# Altium footprint library TerminalBlock_RND.PcbLib: 132 footprints (part 6 of 9)
Each footprint in its own frame and in the unit in brackets; x right, y up, seen from the top. Pads: shape width x height; smd on the part's side, far side on the other; paste and mask are expansions set on the pad; w line width, h text height; cw(c..) or ccw(c..) is an arc to the next point about the centre after c.
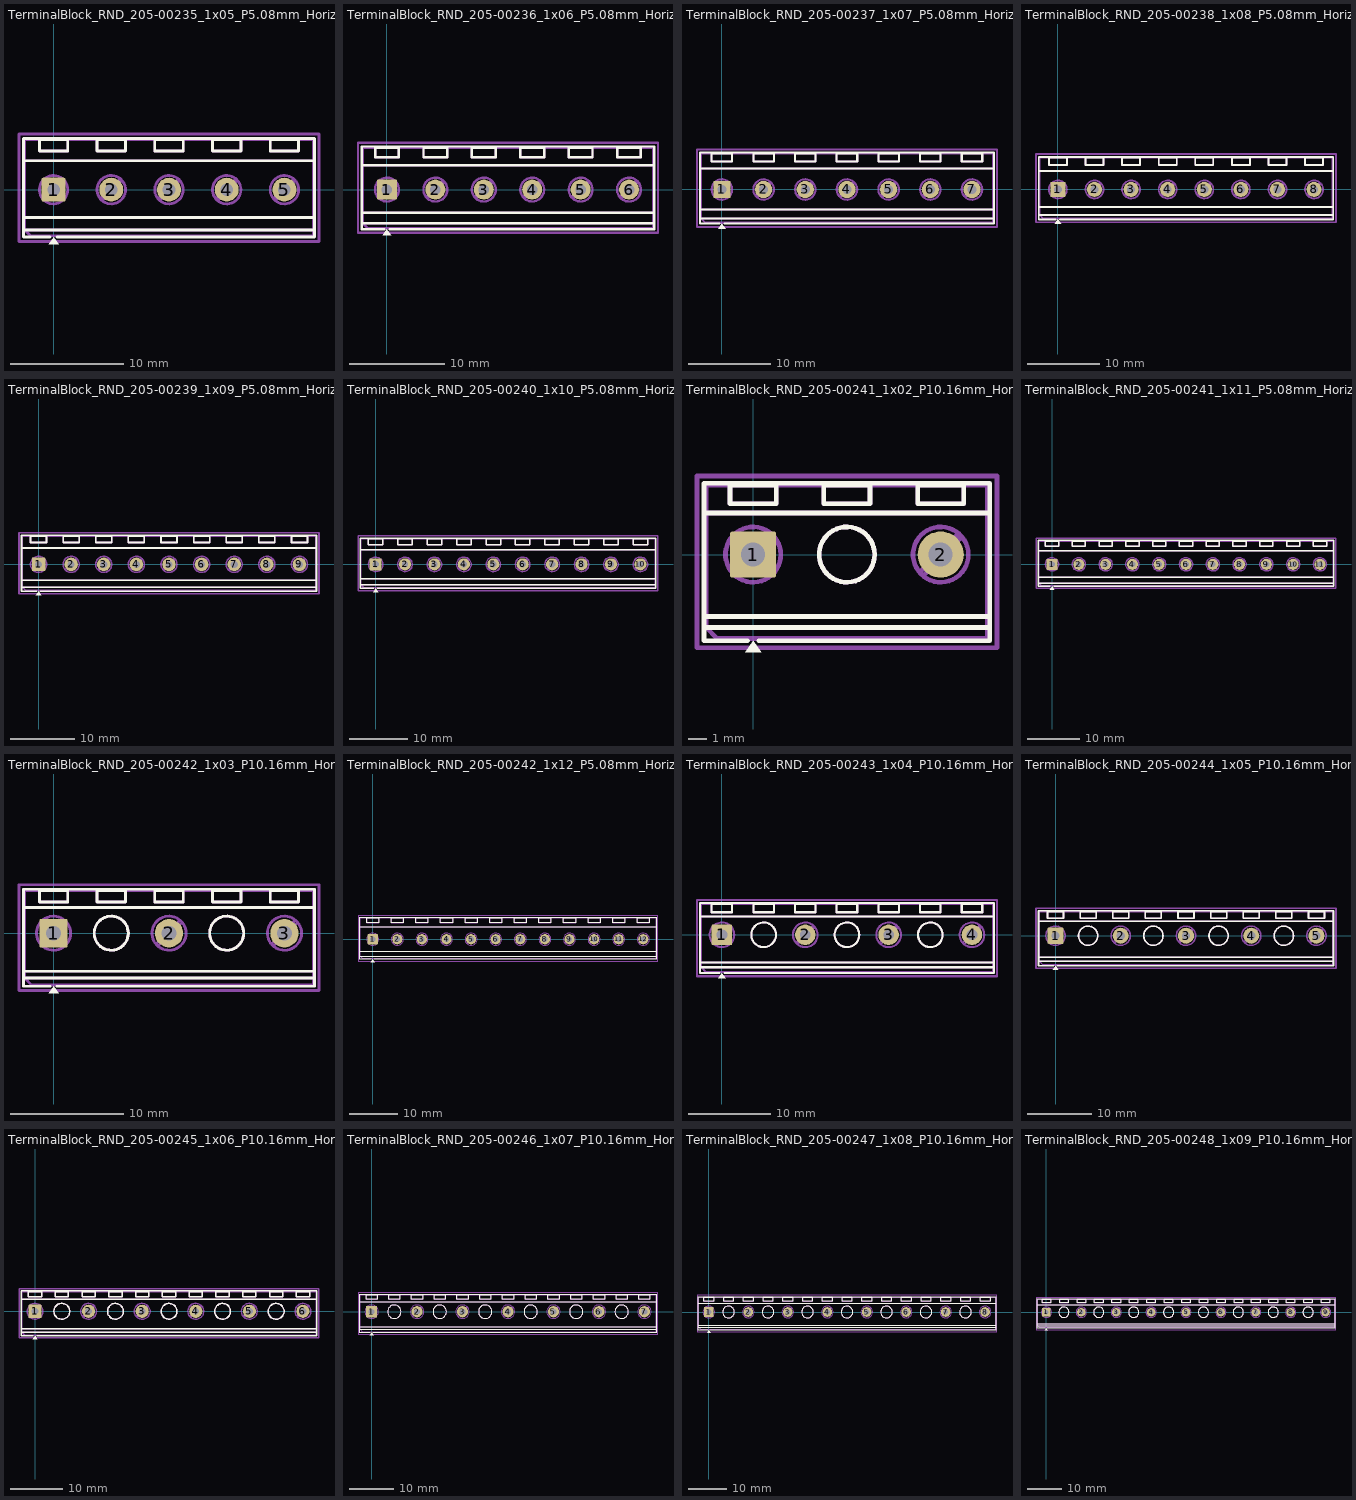
[diagram p5: the footprints below, top view; thin cyan lines are the x and y axes]

## TerminalBlock_RND_205-00235_1x05_P5.08mm_Horizontal [mm]
pads (5):
  rrect12% 2.1x2.1 hole 1.1: 1(0,0)
  round 2.1 hole 1.1: 2(5.08,0) 3(10.16,0) 4(15.24,0) 5(20.32,0)
F.SilkS:
  region: 0.44,-4.78 -0.44,-4.78 0,-4.17
  lines w0.254: -2.66,-3.55 22.98,-3.55 ; -2.66,-2.45 22.98,-2.45 ; -2.66,2.55 22.98,2.55 ; -0.3,-4.17 -2.66,-4.17 -2.66,4.52 22.98,4.52 22.98,-4.17 0.3,-4.17 ; -1.25,3.4 -1.25,4.4 1.25,4.4 1.25,3.4 -1.25,3.4 ; 3.83,3.4 3.83,4.4 6.33,4.4 6.33,3.4 3.83,3.4 ; 8.91,3.4 8.91,4.4 11.41,4.4 11.41,3.4 8.91,3.4 ; 13.99,3.4 13.99,4.4 16.49,4.4 16.49,3.4 13.99,3.4 ; 19.07,3.4 19.07,4.4 21.57,4.4 21.57,3.4 19.07,3.4
F.Fab:
  circle w0.254: c0,0 r1.25
  circle w0.254: c5.08,0 r1.25
  circle w0.254: c10.16,0 r1.25
  circle w0.254: c15.24,0 r1.25
  circle w0.254: c20.32,0 r1.25
  lines w0.254: -2.54,-2.45 22.86,-2.45 ; -2.54,2.55 22.86,2.55 ; -0.948,-0.795 0.795,0.948 ; -0.795,-0.948 0.948,0.795 ; 4.132,-0.795 5.875,0.948 ; 4.285,-0.948 6.028,0.795 ; 9.212,-0.795 10.955,0.948 ; 9.365,-0.948 11.108,0.795 ; 14.292,-0.795 16.035,0.948 ; 14.445,-0.948 16.188,0.795 ; 19.372,-0.795 21.115,0.948 ; 19.525,-0.948 21.268,0.795 ; 22.86,-3.55 -2.54,-3.55 ; -2.54,-3.55 -2.54,4.4 22.86,4.4 22.86,-4.05 -2.04,-4.05 -2.54,-3.55 ; -1.25,3.4 -1.25,4.4 1.25,4.4 1.25,3.4 -1.25,3.4 ; 3.83,3.4 3.83,4.4 6.33,4.4 6.33,3.4 3.83,3.4 ; 8.91,3.4 8.91,4.4 11.41,4.4 11.41,3.4 8.91,3.4 ; 13.99,3.4 13.99,4.4 16.49,4.4 16.49,3.4 13.99,3.4 ; 19.07,3.4 19.07,4.4 21.57,4.4 21.57,3.4 19.07,3.4
  text "'.Designator'" at 6.113,4.68 h1
F.CrtYd:
  lines w0.254: -3.04,-4.55 -3.04,4.9 23.36,4.9 23.36,-4.55 -3.04,-4.55

## TerminalBlock_RND_205-00236_1x06_P5.08mm_Horizontal [mm]
pads (6):
  rrect12% 2.1x2.1 hole 1.1: 1(0,0)
  round 2.1 hole 1.1: 2(5.08,0) 3(10.16,0) 4(15.24,0) 5(20.32,0) 6(25.4,0)
F.SilkS:
  region: 0.44,-4.78 -0.44,-4.78 0,-4.17
  lines w0.254: -2.66,-3.55 28.06,-3.55 ; -2.66,-2.45 28.06,-2.45 ; -2.66,2.55 28.06,2.55 ; -0.3,-4.17 -2.66,-4.17 -2.66,4.52 28.06,4.52 28.06,-4.17 0.3,-4.17 ; -1.25,3.4 -1.25,4.4 1.25,4.4 1.25,3.4 -1.25,3.4 ; 3.83,3.4 3.83,4.4 6.33,4.4 6.33,3.4 3.83,3.4 ; 8.91,3.4 8.91,4.4 11.41,4.4 11.41,3.4 8.91,3.4 ; 13.99,3.4 13.99,4.4 16.49,4.4 16.49,3.4 13.99,3.4 ; 19.07,3.4 19.07,4.4 21.57,4.4 21.57,3.4 19.07,3.4 ; 24.15,3.4 24.15,4.4 26.65,4.4 26.65,3.4 24.15,3.4
F.Fab:
  circle w0.254: c0,0 r1.25
  circle w0.254: c5.08,0 r1.25
  circle w0.254: c10.16,0 r1.25
  circle w0.254: c15.24,0 r1.25
  circle w0.254: c20.32,0 r1.25
  circle w0.254: c25.4,0 r1.25
  lines w0.254: -2.54,-2.45 27.94,-2.45 ; -2.54,2.55 27.94,2.55 ; -0.948,-0.795 0.795,0.948 ; -0.795,-0.948 0.948,0.795 ; 4.132,-0.795 5.875,0.948 ; 4.285,-0.948 6.028,0.795 ; 9.212,-0.795 10.955,0.948 ; 9.365,-0.948 11.108,0.795 ; 14.292,-0.795 16.035,0.948 ; 14.445,-0.948 16.188,0.795 ; 19.372,-0.795 21.115,0.948 ; 19.525,-0.948 21.268,0.795 ; 24.452,-0.795 26.195,0.948 ; 24.605,-0.948 26.348,0.795 ; 27.94,-3.55 -2.54,-3.55 ; -2.54,-3.55 -2.54,4.4 27.94,4.4 27.94,-4.05 -2.04,-4.05 -2.54,-3.55 ; -1.25,3.4 -1.25,4.4 1.25,4.4 1.25,3.4 -1.25,3.4 ; 3.83,3.4 3.83,4.4 6.33,4.4 6.33,3.4 3.83,3.4 ; 8.91,3.4 8.91,4.4 11.41,4.4 11.41,3.4 8.91,3.4 ; 13.99,3.4 13.99,4.4 16.49,4.4 16.49,3.4 13.99,3.4 ; 19.07,3.4 19.07,4.4 21.57,4.4 21.57,3.4 19.07,3.4 ; 24.15,3.4 24.15,4.4 26.65,4.4 26.65,3.4 24.15,3.4
  text "'.Designator'" at 8.653,4.68 h1
F.CrtYd:
  lines w0.254: -3.04,-4.55 -3.04,4.9 28.44,4.9 28.44,-4.55 -3.04,-4.55

## TerminalBlock_RND_205-00237_1x07_P5.08mm_Horizontal [mm]
pads (7):
  rrect12% 2.1x2.1 hole 1.1: 1(0,0)
  round 2.1 hole 1.1: 2(5.08,0) 3(10.16,0) 4(15.24,0) 5(20.32,0) 6(25.4,0) 7(30.48,0)
F.SilkS:
  region: 0.44,-4.78 -0.44,-4.78 0,-4.17
  lines w0.254: -2.66,-3.55 33.14,-3.55 ; -2.66,-2.45 33.14,-2.45 ; -2.66,2.55 33.14,2.55 ; -0.3,-4.17 -2.66,-4.17 -2.66,4.52 33.14,4.52 33.14,-4.17 0.3,-4.17 ; -1.25,3.4 -1.25,4.4 1.25,4.4 1.25,3.4 -1.25,3.4 ; 3.83,3.4 3.83,4.4 6.33,4.4 6.33,3.4 3.83,3.4 ; 8.91,3.4 8.91,4.4 11.41,4.4 11.41,3.4 8.91,3.4 ; 13.99,3.4 13.99,4.4 16.49,4.4 16.49,3.4 13.99,3.4 ; 19.07,3.4 19.07,4.4 21.57,4.4 21.57,3.4 19.07,3.4 ; 24.15,3.4 24.15,4.4 26.65,4.4 26.65,3.4 24.15,3.4 ; 29.23,3.4 29.23,4.4 31.73,4.4 31.73,3.4 29.23,3.4
F.Fab:
  circle w0.254: c0,0 r1.25
  circle w0.254: c5.08,0 r1.25
  circle w0.254: c10.16,0 r1.25
  circle w0.254: c15.24,0 r1.25
  circle w0.254: c20.32,0 r1.25
  circle w0.254: c25.4,0 r1.25
  circle w0.254: c30.48,0 r1.25
  lines w0.254: -2.54,-2.45 33.02,-2.45 ; -2.54,2.55 33.02,2.55 ; -0.948,-0.795 0.795,0.948 ; -0.795,-0.948 0.948,0.795 ; 4.132,-0.795 5.875,0.948 ; 4.285,-0.948 6.028,0.795 ; 9.212,-0.795 10.955,0.948 ; 9.365,-0.948 11.108,0.795 ; 14.292,-0.795 16.035,0.948 ; 14.445,-0.948 16.188,0.795 ; 19.372,-0.795 21.115,0.948 ; 19.525,-0.948 21.268,0.795 ; 24.452,-0.795 26.195,0.948 ; 24.605,-0.948 26.348,0.795 ; 29.532,-0.795 31.275,0.948 ; 29.685,-0.948 31.428,0.795 ; 33.02,-3.55 -2.54,-3.55 ; -2.54,-3.55 -2.54,4.4 33.02,4.4 33.02,-4.05 -2.04,-4.05 -2.54,-3.55 ; -1.25,3.4 -1.25,4.4 1.25,4.4 1.25,3.4 -1.25,3.4 ; 3.83,3.4 3.83,4.4 6.33,4.4 6.33,3.4 3.83,3.4 ; 8.91,3.4 8.91,4.4 11.41,4.4 11.41,3.4 8.91,3.4 ; 13.99,3.4 13.99,4.4 16.49,4.4 16.49,3.4 13.99,3.4 ; 19.07,3.4 19.07,4.4 21.57,4.4 21.57,3.4 19.07,3.4 ; 24.15,3.4 24.15,4.4 26.65,4.4 26.65,3.4 24.15,3.4 ; 29.23,3.4 29.23,4.4 31.73,4.4 31.73,3.4 29.23,3.4
  text "'.Designator'" at 11.193,4.68 h1
F.CrtYd:
  lines w0.254: -3.04,-4.55 -3.04,4.9 33.53,4.9 33.53,-4.55 -3.04,-4.55

## TerminalBlock_RND_205-00238_1x08_P5.08mm_Horizontal [mm]
pads (8):
  rrect12% 2.1x2.1 hole 1.1: 1(0,0)
  round 2.1 hole 1.1: 2(5.08,0) 3(10.16,0) 4(15.24,0) 5(20.32,0) 6(25.4,0) 7(30.48,0) 8(35.56,0)
F.SilkS:
  region: 0.44,-4.78 -0.44,-4.78 0,-4.17
  lines w0.254: -2.66,-3.55 38.22,-3.55 ; -2.66,-2.45 38.22,-2.45 ; -2.66,2.55 38.22,2.55 ; -0.3,-4.17 -2.66,-4.17 -2.66,4.52 38.22,4.52 38.22,-4.17 0.3,-4.17 ; -1.25,3.4 -1.25,4.4 1.25,4.4 1.25,3.4 -1.25,3.4 ; 3.83,3.4 3.83,4.4 6.33,4.4 6.33,3.4 3.83,3.4 ; 8.91,3.4 8.91,4.4 11.41,4.4 11.41,3.4 8.91,3.4 ; 13.99,3.4 13.99,4.4 16.49,4.4 16.49,3.4 13.99,3.4 ; 19.07,3.4 19.07,4.4 21.57,4.4 21.57,3.4 19.07,3.4 ; 24.15,3.4 24.15,4.4 26.65,4.4 26.65,3.4 24.15,3.4 ; 29.23,3.4 29.23,4.4 31.73,4.4 31.73,3.4 29.23,3.4 ; 34.31,3.4 34.31,4.4 36.81,4.4 36.81,3.4 34.31,3.4
F.Fab:
  circle w0.254: c0,0 r1.25
  circle w0.254: c5.08,0 r1.25
  circle w0.254: c10.16,0 r1.25
  circle w0.254: c15.24,0 r1.25
  circle w0.254: c20.32,0 r1.25
  circle w0.254: c25.4,0 r1.25
  circle w0.254: c30.48,0 r1.25
  circle w0.254: c35.56,0 r1.25
  lines w0.254: -2.54,-2.45 38.1,-2.45 ; -2.54,2.55 38.1,2.55 ; -0.948,-0.795 0.795,0.948 ; -0.795,-0.948 0.948,0.795 ; 4.132,-0.795 5.875,0.948 ; 4.285,-0.948 6.028,0.795 ; 9.212,-0.795 10.955,0.948 ; 9.365,-0.948 11.108,0.795 ; 14.292,-0.795 16.035,0.948 ; 14.445,-0.948 16.188,0.795 ; 19.372,-0.795 21.115,0.948 ; 19.525,-0.948 21.268,0.795 ; 24.452,-0.795 26.195,0.948 ; 24.605,-0.948 26.348,0.795 ; 29.532,-0.795 31.275,0.948 ; 29.685,-0.948 31.428,0.795 ; 34.612,-0.795 36.355,0.948 ; 34.765,-0.948 36.508,0.795 ; 38.1,-3.55 -2.54,-3.55 ; -2.54,-3.55 -2.54,4.4 38.1,4.4 38.1,-4.05 -2.04,-4.05 -2.54,-3.55 ; -1.25,3.4 -1.25,4.4 1.25,4.4 1.25,3.4 -1.25,3.4 ; 3.83,3.4 3.83,4.4 6.33,4.4 6.33,3.4 3.83,3.4 ; 8.91,3.4 8.91,4.4 11.41,4.4 11.41,3.4 8.91,3.4 ; 13.99,3.4 13.99,4.4 16.49,4.4 16.49,3.4 13.99,3.4 ; 19.07,3.4 19.07,4.4 21.57,4.4 21.57,3.4 19.07,3.4 ; 24.15,3.4 24.15,4.4 26.65,4.4 26.65,3.4 24.15,3.4 ; 29.23,3.4 29.23,4.4 31.73,4.4 31.73,3.4 29.23,3.4 ; 34.31,3.4 34.31,4.4 36.81,4.4 36.81,3.4 34.31,3.4
  text "'.Designator'" at 13.733,4.68 h1
F.CrtYd:
  lines w0.254: -3.04,-4.55 -3.04,4.9 38.6,4.9 38.6,-4.55 -3.04,-4.55

## TerminalBlock_RND_205-00239_1x09_P5.08mm_Horizontal [mm]
pads (9):
  rrect12% 2.1x2.1 hole 1.1: 1(0,0)
  round 2.1 hole 1.1: 2(5.08,0) 3(10.16,0) 4(15.24,0) 5(20.32,0) 6(25.4,0) 7(30.48,0) 8(35.56,0) 9(40.64,0)
F.SilkS:
  region: 0.44,-4.78 -0.44,-4.78 0,-4.17
  lines w0.254: -2.66,-3.55 43.3,-3.55 ; -2.66,-2.45 43.3,-2.45 ; -2.66,2.55 43.3,2.55 ; -0.3,-4.17 -2.66,-4.17 -2.66,4.52 43.3,4.52 43.3,-4.17 0.3,-4.17 ; -1.25,3.4 -1.25,4.4 1.25,4.4 1.25,3.4 -1.25,3.4 ; 3.83,3.4 3.83,4.4 6.33,4.4 6.33,3.4 3.83,3.4 ; 8.91,3.4 8.91,4.4 11.41,4.4 11.41,3.4 8.91,3.4 ; 13.99,3.4 13.99,4.4 16.49,4.4 16.49,3.4 13.99,3.4 ; 19.07,3.4 19.07,4.4 21.57,4.4 21.57,3.4 19.07,3.4 ; 24.15,3.4 24.15,4.4 26.65,4.4 26.65,3.4 24.15,3.4 ; 29.23,3.4 29.23,4.4 31.73,4.4 31.73,3.4 29.23,3.4 ; 34.31,3.4 34.31,4.4 36.81,4.4 36.81,3.4 34.31,3.4 ; 39.39,3.4 39.39,4.4 41.89,4.4 41.89,3.4 39.39,3.4
F.Fab:
  circle w0.254: c0,0 r1.25
  circle w0.254: c5.08,0 r1.25
  circle w0.254: c10.16,0 r1.25
  circle w0.254: c15.24,0 r1.25
  circle w0.254: c20.32,0 r1.25
  circle w0.254: c25.4,0 r1.25
  circle w0.254: c30.48,0 r1.25
  circle w0.254: c35.56,0 r1.25
  circle w0.254: c40.64,0 r1.25
  lines w0.254: -2.54,-2.45 43.18,-2.45 ; -2.54,2.55 43.18,2.55 ; -0.948,-0.795 0.795,0.948 ; -0.795,-0.948 0.948,0.795 ; 4.132,-0.795 5.875,0.948 ; 4.285,-0.948 6.028,0.795 ; 9.212,-0.795 10.955,0.948 ; 9.365,-0.948 11.108,0.795 ; 14.292,-0.795 16.035,0.948 ; 14.445,-0.948 16.188,0.795 ; 19.372,-0.795 21.115,0.948 ; 19.525,-0.948 21.268,0.795 ; 24.452,-0.795 26.195,0.948 ; 24.605,-0.948 26.348,0.795 ; 29.532,-0.795 31.275,0.948 ; 29.685,-0.948 31.428,0.795 ; 34.612,-0.795 36.355,0.948 ; 34.765,-0.948 36.508,0.795 ; 39.692,-0.795 41.435,0.948 ; 39.845,-0.948 41.588,0.795 ; 43.18,-3.55 -2.54,-3.55 ; -2.54,-3.55 -2.54,4.4 43.18,4.4 43.18,-4.05 -2.04,-4.05 -2.54,-3.55 ; -1.25,3.4 -1.25,4.4 1.25,4.4 1.25,3.4 -1.25,3.4 ; 3.83,3.4 3.83,4.4 6.33,4.4 6.33,3.4 3.83,3.4 ; 8.91,3.4 8.91,4.4 11.41,4.4 11.41,3.4 8.91,3.4 ; 13.99,3.4 13.99,4.4 16.49,4.4 16.49,3.4 13.99,3.4 ; 19.07,3.4 19.07,4.4 21.57,4.4 21.57,3.4 19.07,3.4 ; 24.15,3.4 24.15,4.4 26.65,4.4 26.65,3.4 24.15,3.4 ; 29.23,3.4 29.23,4.4 31.73,4.4 31.73,3.4 29.23,3.4 ; 34.31,3.4 34.31,4.4 36.81,4.4 36.81,3.4 34.31,3.4 ; 39.39,3.4 39.39,4.4 41.89,4.4 41.89,3.4 39.39,3.4
  text "'.Designator'" at 16.273,4.68 h1
F.CrtYd:
  lines w0.254: -3.04,-4.55 -3.04,4.9 43.68,4.9 43.68,-4.55 -3.04,-4.55

## TerminalBlock_RND_205-00240_1x10_P5.08mm_Horizontal [mm]
pads (10):
  rrect12% 2.1x2.1 hole 1.1: 1(0,0)
  round 2.1 hole 1.1: 2(5.08,0) 3(10.16,0) 4(15.24,0) 5(20.32,0) 6(25.4,0) 7(30.48,0) 8(35.56,0) 9(40.64,0) 10(45.72,0)
F.SilkS:
  region: 0.44,-4.78 -0.44,-4.78 0,-4.17
  lines w0.254: -2.66,-3.55 48.38,-3.55 ; -2.66,-2.45 48.38,-2.45 ; -2.66,2.55 48.38,2.55 ; -0.3,-4.17 -2.66,-4.17 -2.66,4.52 48.38,4.52 48.38,-4.17 0.3,-4.17 ; -1.25,3.4 -1.25,4.4 1.25,4.4 1.25,3.4 -1.25,3.4 ; 3.83,3.4 3.83,4.4 6.33,4.4 6.33,3.4 3.83,3.4 ; 8.91,3.4 8.91,4.4 11.41,4.4 11.41,3.4 8.91,3.4 ; 13.99,3.4 13.99,4.4 16.49,4.4 16.49,3.4 13.99,3.4 ; 19.07,3.4 19.07,4.4 21.57,4.4 21.57,3.4 19.07,3.4 ; 24.15,3.4 24.15,4.4 26.65,4.4 26.65,3.4 24.15,3.4 ; 29.23,3.4 29.23,4.4 31.73,4.4 31.73,3.4 29.23,3.4 ; 34.31,3.4 34.31,4.4 36.81,4.4 36.81,3.4 34.31,3.4 ; 39.39,3.4 39.39,4.4 41.89,4.4 41.89,3.4 39.39,3.4 ; 44.47,3.4 44.47,4.4 46.97,4.4 46.97,3.4 44.47,3.4
F.Fab:
  circle w0.254: c0,0 r1.25
  circle w0.254: c5.08,0 r1.25
  circle w0.254: c10.16,0 r1.25
  circle w0.254: c15.24,0 r1.25
  circle w0.254: c20.32,0 r1.25
  circle w0.254: c25.4,0 r1.25
  circle w0.254: c30.48,0 r1.25
  circle w0.254: c35.56,0 r1.25
  circle w0.254: c40.64,0 r1.25
  circle w0.254: c45.72,0 r1.25
  lines w0.254: -2.54,-2.45 48.26,-2.45 ; -2.54,2.55 48.26,2.55 ; -0.948,-0.795 0.795,0.948 ; -0.795,-0.948 0.948,0.795 ; 4.132,-0.795 5.875,0.948 ; 4.285,-0.948 6.028,0.795 ; 9.212,-0.795 10.955,0.948 ; 9.365,-0.948 11.108,0.795 ; 14.292,-0.795 16.035,0.948 ; 14.445,-0.948 16.188,0.795 ; 19.372,-0.795 21.115,0.948 ; 19.525,-0.948 21.268,0.795 ; 24.452,-0.795 26.195,0.948 ; 24.605,-0.948 26.348,0.795 ; 29.532,-0.795 31.275,0.948 ; 29.685,-0.948 31.428,0.795 ; 34.612,-0.795 36.355,0.948 ; 34.765,-0.948 36.508,0.795 ; 39.692,-0.795 41.435,0.948 ; 39.845,-0.948 41.588,0.795 ; 44.772,-0.795 46.515,0.948 ; 44.925,-0.948 46.668,0.795 ; 48.26,-3.55 -2.54,-3.55 ; -2.54,-3.55 -2.54,4.4 48.26,4.4 48.26,-4.05 -2.04,-4.05 -2.54,-3.55 ; -1.25,3.4 -1.25,4.4 1.25,4.4 1.25,3.4 -1.25,3.4 ; 3.83,3.4 3.83,4.4 6.33,4.4 6.33,3.4 3.83,3.4 ; 8.91,3.4 8.91,4.4 11.41,4.4 11.41,3.4 8.91,3.4 ; 13.99,3.4 13.99,4.4 16.49,4.4 16.49,3.4 13.99,3.4 ; 19.07,3.4 19.07,4.4 21.57,4.4 21.57,3.4 19.07,3.4 ; 24.15,3.4 24.15,4.4 26.65,4.4 26.65,3.4 24.15,3.4 ; 29.23,3.4 29.23,4.4 31.73,4.4 31.73,3.4 29.23,3.4 ; 34.31,3.4 34.31,4.4 36.81,4.4 36.81,3.4 34.31,3.4 ; 39.39,3.4 39.39,4.4 41.89,4.4 41.89,3.4 39.39,3.4 ; 44.47,3.4 44.47,4.4 46.97,4.4 46.97,3.4 44.47,3.4
  text "'.Designator'" at 18.813,4.68 h1
F.CrtYd:
  lines w0.254: -3.04,-4.55 -3.04,4.9 48.76,4.9 48.76,-4.55 -3.04,-4.55

## TerminalBlock_RND_205-00241_1x02_P10.16mm_Horizontal [mm]
pads (2):
  rrect10% 2.5x2.5 hole 1.3: 1(0,0)
  round 2.5 hole 1.3: 2(10.16,0)
F.SilkS:
  circle w0.254: c5.08,0 r1.5
  region: 0.44,-5.28 -0.44,-5.28 0,-4.67
  lines w0.254: -2.66,-3.95 12.82,-3.95 ; -2.66,-3.35 12.82,-3.35 ; -2.66,2.25 12.82,2.25 ; -0.3,-4.67 -2.66,-4.67 -2.66,3.87 12.82,3.87 12.82,-4.67 0.3,-4.67 ; -1.25,2.75 -1.25,3.75 1.25,3.75 1.25,2.75 -1.25,2.75 ; 3.83,2.75 3.83,3.75 6.33,3.75 6.33,2.75 3.83,2.75 ; 8.91,2.75 8.91,3.75 11.41,3.75 11.41,2.75 8.91,2.75
F.Fab:
  circle w0.254: c0,0 r1.5
  circle w0.254: c5.08,0 r1.5
  circle w0.254: c10.16,0 r1.5
  lines w0.254: -2.54,-3.35 12.7,-3.35 ; -2.54,2.25 12.7,2.25 ; -1.138,-0.955 0.955,1.138 ; -0.955,-1.138 1.138,0.955 ; 9.022,-0.955 11.115,1.138 ; 9.205,-1.138 11.298,0.955 ; 12.7,-3.95 -2.54,-3.95 ; -2.54,-3.95 -2.54,3.75 12.7,3.75 12.7,-4.55 -1.94,-4.55 -2.54,-3.95 ; -1.25,2.75 -1.25,3.75 1.25,3.75 1.25,2.75 -1.25,2.75 ; 3.83,2.75 3.83,3.75 6.33,3.75 6.33,2.75 3.83,2.75 ; 8.91,2.75 8.91,3.75 11.41,3.75 11.41,2.75 8.91,2.75
  text "'.Designator'" at 1.033,4.03 h1
F.CrtYd:
  lines w0.254: -3.04,-5.05 -3.04,4.26 13.21,4.26 13.21,-5.05 -3.04,-5.05

## TerminalBlock_RND_205-00241_1x11_P5.08mm_Horizontal [mm]
pads (11):
  rrect12% 2.1x2.1 hole 1.1: 1(0,0)
  round 2.1 hole 1.1: 2(5.08,0) 3(10.16,0) 4(15.24,0) 5(20.32,0) 6(25.4,0) 7(30.48,0) 8(35.56,0) 9(40.64,0) 10(45.72,0) 11(50.8,0)
F.SilkS:
  region: 0.44,-4.78 -0.44,-4.78 0,-4.17
  lines w0.254: -2.66,-3.55 53.46,-3.55 ; -2.66,-2.45 53.46,-2.45 ; -2.66,2.55 53.46,2.55 ; -0.3,-4.17 -2.66,-4.17 -2.66,4.52 53.46,4.52 53.46,-4.17 0.3,-4.17 ; -1.25,3.4 -1.25,4.4 1.25,4.4 1.25,3.4 -1.25,3.4 ; 3.83,3.4 3.83,4.4 6.33,4.4 6.33,3.4 3.83,3.4 ; 8.91,3.4 8.91,4.4 11.41,4.4 11.41,3.4 8.91,3.4 ; 13.99,3.4 13.99,4.4 16.49,4.4 16.49,3.4 13.99,3.4 ; 19.07,3.4 19.07,4.4 21.57,4.4 21.57,3.4 19.07,3.4 ; 24.15,3.4 24.15,4.4 26.65,4.4 26.65,3.4 24.15,3.4 ; 29.23,3.4 29.23,4.4 31.73,4.4 31.73,3.4 29.23,3.4 ; 34.31,3.4 34.31,4.4 36.81,4.4 36.81,3.4 34.31,3.4 ; 39.39,3.4 39.39,4.4 41.89,4.4 41.89,3.4 39.39,3.4 ; 44.47,3.4 44.47,4.4 46.97,4.4 46.97,3.4 44.47,3.4 ; 49.55,3.4 49.55,4.4 52.05,4.4 52.05,3.4 49.55,3.4
F.Fab:
  circle w0.254: c0,0 r1.25
  circle w0.254: c5.08,0 r1.25
  circle w0.254: c10.16,0 r1.25
  circle w0.254: c15.24,0 r1.25
  circle w0.254: c20.32,0 r1.25
  circle w0.254: c25.4,0 r1.25
  circle w0.254: c30.48,0 r1.25
  circle w0.254: c35.56,0 r1.25
  circle w0.254: c40.64,0 r1.25
  circle w0.254: c45.72,0 r1.25
  circle w0.254: c50.8,0 r1.25
  lines w0.254: -2.54,-2.45 53.34,-2.45 ; -2.54,2.55 53.34,2.55 ; -0.948,-0.795 0.795,0.948 ; -0.795,-0.948 0.948,0.795 ; 4.132,-0.795 5.875,0.948 ; 4.285,-0.948 6.028,0.795 ; 9.212,-0.795 10.955,0.948 ; 9.365,-0.948 11.108,0.795 ; 14.292,-0.795 16.035,0.948 ; 14.445,-0.948 16.188,0.795 ; 19.372,-0.795 21.115,0.948 ; 19.525,-0.948 21.268,0.795 ; 24.452,-0.795 26.195,0.948 ; 24.605,-0.948 26.348,0.795 ; 29.532,-0.795 31.275,0.948 ; 29.685,-0.948 31.428,0.795 ; 34.612,-0.795 36.355,0.948 ; 34.765,-0.948 36.508,0.795 ; 39.692,-0.795 41.435,0.948 ; 39.845,-0.948 41.588,0.795 ; 44.772,-0.795 46.515,0.948 ; 44.925,-0.948 46.668,0.795 ; 49.852,-0.795 51.595,0.948 ; 50.005,-0.948 51.748,0.795 ; 53.34,-3.55 -2.54,-3.55 ; -2.54,-3.55 -2.54,4.4 53.34,4.4 53.34,-4.05 -2.04,-4.05 -2.54,-3.55 ; -1.25,3.4 -1.25,4.4 1.25,4.4 1.25,3.4 -1.25,3.4 ; 3.83,3.4 3.83,4.4 6.33,4.4 6.33,3.4 3.83,3.4 ; 8.91,3.4 8.91,4.4 11.41,4.4 11.41,3.4 8.91,3.4 ; 13.99,3.4 13.99,4.4 16.49,4.4 16.49,3.4 13.99,3.4 ; 19.07,3.4 19.07,4.4 21.57,4.4 21.57,3.4 19.07,3.4 ; 24.15,3.4 24.15,4.4 26.65,4.4 26.65,3.4 24.15,3.4 ; 29.23,3.4 29.23,4.4 31.73,4.4 31.73,3.4 29.23,3.4 ; 34.31,3.4 34.31,4.4 36.81,4.4 36.81,3.4 34.31,3.4 ; 39.39,3.4 39.39,4.4 41.89,4.4 41.89,3.4 39.39,3.4 ; 44.47,3.4 44.47,4.4 46.97,4.4 46.97,3.4 44.47,3.4 ; 49.55,3.4 49.55,4.4 52.05,4.4 52.05,3.4 49.55,3.4
  text "'.Designator'" at 21.353,4.68 h1
F.CrtYd:
  lines w0.254: -3.04,-4.55 -3.04,4.9 53.84,4.9 53.84,-4.55 -3.04,-4.55

## TerminalBlock_RND_205-00242_1x03_P10.16mm_Horizontal [mm]
pads (3):
  rrect10% 2.5x2.5 hole 1.3: 1(0,0)
  round 2.5 hole 1.3: 2(10.16,0) 3(20.32,0)
F.SilkS:
  circle w0.254: c5.08,0 r1.5
  circle w0.254: c15.24,0 r1.5
  region: 0.44,-5.28 -0.44,-5.28 0,-4.67
  lines w0.254: -2.66,-3.95 22.98,-3.95 ; -2.66,-3.35 22.98,-3.35 ; -2.66,2.25 22.98,2.25 ; -0.3,-4.67 -2.66,-4.67 -2.66,3.87 22.98,3.87 22.98,-4.67 0.3,-4.67 ; -1.25,2.75 -1.25,3.75 1.25,3.75 1.25,2.75 -1.25,2.75 ; 3.83,2.75 3.83,3.75 6.33,3.75 6.33,2.75 3.83,2.75 ; 8.91,2.75 8.91,3.75 11.41,3.75 11.41,2.75 8.91,2.75 ; 13.99,2.75 13.99,3.75 16.49,3.75 16.49,2.75 13.99,2.75 ; 19.07,2.75 19.07,3.75 21.57,3.75 21.57,2.75 19.07,2.75
F.Fab:
  circle w0.254: c0,0 r1.5
  circle w0.254: c5.08,0 r1.5
  circle w0.254: c10.16,0 r1.5
  circle w0.254: c15.24,0 r1.5
  circle w0.254: c20.32,0 r1.5
  lines w0.254: -2.54,-3.35 22.86,-3.35 ; -2.54,2.25 22.86,2.25 ; -1.138,-0.955 0.955,1.138 ; -0.955,-1.138 1.138,0.955 ; 9.022,-0.955 11.115,1.138 ; 9.205,-1.138 11.298,0.955 ; 19.182,-0.955 21.275,1.138 ; 19.365,-1.138 21.458,0.955 ; 22.86,-3.95 -2.54,-3.95 ; -2.54,-3.95 -2.54,3.75 22.86,3.75 22.86,-4.55 -1.94,-4.55 -2.54,-3.95 ; -1.25,2.75 -1.25,3.75 1.25,3.75 1.25,2.75 -1.25,2.75 ; 3.83,2.75 3.83,3.75 6.33,3.75 6.33,2.75 3.83,2.75 ; 8.91,2.75 8.91,3.75 11.41,3.75 11.41,2.75 8.91,2.75 ; 13.99,2.75 13.99,3.75 16.49,3.75 16.49,2.75 13.99,2.75 ; 19.07,2.75 19.07,3.75 21.57,3.75 21.57,2.75 19.07,2.75
  text "'.Designator'" at 6.113,4.03 h1
F.CrtYd:
  lines w0.254: -3.04,-5.05 -3.04,4.26 23.36,4.26 23.36,-5.05 -3.04,-5.05

## TerminalBlock_RND_205-00242_1x12_P5.08mm_Horizontal [mm]
pads (12):
  rrect12% 2.1x2.1 hole 1.1: 1(0,0)
  round 2.1 hole 1.1: 2(5.08,0) 3(10.16,0) 4(15.24,0) 5(20.32,0) 6(25.4,0) 7(30.48,0) 8(35.56,0) 9(40.64,0) 10(45.72,0) 11(50.8,0) 12(55.88,0)
F.SilkS:
  region: 0.44,-4.78 -0.44,-4.78 0,-4.17
  lines w0.254: -2.66,-3.55 58.54,-3.55 ; -2.66,-2.45 58.54,-2.45 ; -2.66,2.55 58.54,2.55 ; -0.3,-4.17 -2.66,-4.17 -2.66,4.52 58.54,4.52 58.54,-4.17 0.3,-4.17 ; -1.25,3.4 -1.25,4.4 1.25,4.4 1.25,3.4 -1.25,3.4 ; 3.83,3.4 3.83,4.4 6.33,4.4 6.33,3.4 3.83,3.4 ; 8.91,3.4 8.91,4.4 11.41,4.4 11.41,3.4 8.91,3.4 ; 13.99,3.4 13.99,4.4 16.49,4.4 16.49,3.4 13.99,3.4 ; 19.07,3.4 19.07,4.4 21.57,4.4 21.57,3.4 19.07,3.4 ; 24.15,3.4 24.15,4.4 26.65,4.4 26.65,3.4 24.15,3.4 ; 29.23,3.4 29.23,4.4 31.73,4.4 31.73,3.4 29.23,3.4 ; 34.31,3.4 34.31,4.4 36.81,4.4 36.81,3.4 34.31,3.4 ; 39.39,3.4 39.39,4.4 41.89,4.4 41.89,3.4 39.39,3.4 ; 44.47,3.4 44.47,4.4 46.97,4.4 46.97,3.4 44.47,3.4 ; 49.55,3.4 49.55,4.4 52.05,4.4 52.05,3.4 49.55,3.4 ; 54.63,3.4 54.63,4.4 57.13,4.4 57.13,3.4 54.63,3.4
F.Fab:
  circle w0.254: c0,0 r1.25
  circle w0.254: c5.08,0 r1.25
  circle w0.254: c10.16,0 r1.25
  circle w0.254: c15.24,0 r1.25
  circle w0.254: c20.32,0 r1.25
  circle w0.254: c25.4,0 r1.25
  circle w0.254: c30.48,0 r1.25
  circle w0.254: c35.56,0 r1.25
  circle w0.254: c40.64,0 r1.25
  circle w0.254: c45.72,0 r1.25
  circle w0.254: c50.8,0 r1.25
  circle w0.254: c55.88,0 r1.25
  lines w0.254: -2.54,-2.45 58.42,-2.45 ; -2.54,2.55 58.42,2.55 ; -0.948,-0.795 0.795,0.948 ; -0.795,-0.948 0.948,0.795 ; 4.132,-0.795 5.875,0.948 ; 4.285,-0.948 6.028,0.795 ; 9.212,-0.795 10.955,0.948 ; 9.365,-0.948 11.108,0.795 ; 14.292,-0.795 16.035,0.948 ; 14.445,-0.948 16.188,0.795 ; 19.372,-0.795 21.115,0.948 ; 19.525,-0.948 21.268,0.795 ; 24.452,-0.795 26.195,0.948 ; 24.605,-0.948 26.348,0.795 ; 29.532,-0.795 31.275,0.948 ; 29.685,-0.948 31.428,0.795 ; 34.612,-0.795 36.355,0.948 ; 34.765,-0.948 36.508,0.795 ; 39.692,-0.795 41.435,0.948 ; 39.845,-0.948 41.588,0.795 ; 44.772,-0.795 46.515,0.948 ; 44.925,-0.948 46.668,0.795 ; 49.852,-0.795 51.595,0.948 ; 50.005,-0.948 51.748,0.795 ; 54.932,-0.795 56.675,0.948 ; 55.085,-0.948 56.828,0.795 ; 58.42,-3.55 -2.54,-3.55 ; -2.54,-3.55 -2.54,4.4 58.42,4.4 58.42,-4.05 -2.04,-4.05 -2.54,-3.55 ; -1.25,3.4 -1.25,4.4 1.25,4.4 1.25,3.4 -1.25,3.4 ; 3.83,3.4 3.83,4.4 6.33,4.4 6.33,3.4 3.83,3.4 ; 8.91,3.4 8.91,4.4 11.41,4.4 11.41,3.4 8.91,3.4 ; 13.99,3.4 13.99,4.4 16.49,4.4 16.49,3.4 13.99,3.4 ; 19.07,3.4 19.07,4.4 21.57,4.4 21.57,3.4 19.07,3.4 ; 24.15,3.4 24.15,4.4 26.65,4.4 26.65,3.4 24.15,3.4 ; 29.23,3.4 29.23,4.4 31.73,4.4 31.73,3.4 29.23,3.4 ; 34.31,3.4 34.31,4.4 36.81,4.4 36.81,3.4 34.31,3.4 ; 39.39,3.4 39.39,4.4 41.89,4.4 41.89,3.4 39.39,3.4 ; 44.47,3.4 44.47,4.4 46.97,4.4 46.97,3.4 44.47,3.4 ; 49.55,3.4 49.55,4.4 52.05,4.4 52.05,3.4 49.55,3.4 ; 54.63,3.4 54.63,4.4 57.13,4.4 57.13,3.4 54.63,3.4
  text "'.Designator'" at 23.893,4.68 h1
F.CrtYd:
  lines w0.254: -3.04,-4.55 -3.04,4.9 58.92,4.9 58.92,-4.55 -3.04,-4.55

## TerminalBlock_RND_205-00243_1x04_P10.16mm_Horizontal [mm]
pads (4):
  rrect10% 2.5x2.5 hole 1.3: 1(0,0)
  round 2.5 hole 1.3: 2(10.16,0) 3(20.32,0) 4(30.48,0)
F.SilkS:
  circle w0.254: c5.08,0 r1.5
  circle w0.254: c15.24,0 r1.5
  circle w0.254: c25.4,0 r1.5
  region: 0.44,-5.28 -0.44,-5.28 0,-4.67
  lines w0.254: -2.66,-3.95 33.14,-3.95 ; -2.66,-3.35 33.14,-3.35 ; -2.66,2.25 33.14,2.25 ; -0.3,-4.67 -2.66,-4.67 -2.66,3.87 33.14,3.87 33.14,-4.67 0.3,-4.67 ; -1.25,2.75 -1.25,3.75 1.25,3.75 1.25,2.75 -1.25,2.75 ; 3.83,2.75 3.83,3.75 6.33,3.75 6.33,2.75 3.83,2.75 ; 8.91,2.75 8.91,3.75 11.41,3.75 11.41,2.75 8.91,2.75 ; 13.99,2.75 13.99,3.75 16.49,3.75 16.49,2.75 13.99,2.75 ; 19.07,2.75 19.07,3.75 21.57,3.75 21.57,2.75 19.07,2.75 ; 24.15,2.75 24.15,3.75 26.65,3.75 26.65,2.75 24.15,2.75 ; 29.23,2.75 29.23,3.75 31.73,3.75 31.73,2.75 29.23,2.75
F.Fab:
  circle w0.254: c0,0 r1.5
  circle w0.254: c5.08,0 r1.5
  circle w0.254: c10.16,0 r1.5
  circle w0.254: c15.24,0 r1.5
  circle w0.254: c20.32,0 r1.5
  circle w0.254: c25.4,0 r1.5
  circle w0.254: c30.48,0 r1.5
  lines w0.254: -2.54,-3.35 33.02,-3.35 ; -2.54,2.25 33.02,2.25 ; -1.138,-0.955 0.955,1.138 ; -0.955,-1.138 1.138,0.955 ; 9.022,-0.955 11.115,1.138 ; 9.205,-1.138 11.298,0.955 ; 19.182,-0.955 21.275,1.138 ; 19.365,-1.138 21.458,0.955 ; 29.342,-0.955 31.435,1.138 ; 29.525,-1.138 31.618,0.955 ; 33.02,-3.95 -2.54,-3.95 ; -2.54,-3.95 -2.54,3.75 33.02,3.75 33.02,-4.55 -1.94,-4.55 -2.54,-3.95 ; -1.25,2.75 -1.25,3.75 1.25,3.75 1.25,2.75 -1.25,2.75 ; 3.83,2.75 3.83,3.75 6.33,3.75 6.33,2.75 3.83,2.75 ; 8.91,2.75 8.91,3.75 11.41,3.75 11.41,2.75 8.91,2.75 ; 13.99,2.75 13.99,3.75 16.49,3.75 16.49,2.75 13.99,2.75 ; 19.07,2.75 19.07,3.75 21.57,3.75 21.57,2.75 19.07,2.75 ; 24.15,2.75 24.15,3.75 26.65,3.75 26.65,2.75 24.15,2.75 ; 29.23,2.75 29.23,3.75 31.73,3.75 31.73,2.75 29.23,2.75
  text "'.Designator'" at 11.193,4.03 h1
F.CrtYd:
  lines w0.254: -3.04,-5.05 -3.04,4.26 33.53,4.26 33.53,-5.05 -3.04,-5.05

## TerminalBlock_RND_205-00244_1x05_P10.16mm_Horizontal [mm]
pads (5):
  rrect10% 2.5x2.5 hole 1.3: 1(0,0)
  round 2.5 hole 1.3: 2(10.16,0) 3(20.32,0) 4(30.48,0) 5(40.64,0)
F.SilkS:
  circle w0.254: c5.08,0 r1.5
  circle w0.254: c15.24,0 r1.5
  circle w0.254: c25.4,0 r1.5
  circle w0.254: c35.56,0 r1.5
  region: 0.44,-5.28 -0.44,-5.28 0,-4.67
  lines w0.254: -2.66,-3.95 43.3,-3.95 ; -2.66,-3.35 43.3,-3.35 ; -2.66,2.25 43.3,2.25 ; -0.3,-4.67 -2.66,-4.67 -2.66,3.87 43.3,3.87 43.3,-4.67 0.3,-4.67 ; -1.25,2.75 -1.25,3.75 1.25,3.75 1.25,2.75 -1.25,2.75 ; 3.83,2.75 3.83,3.75 6.33,3.75 6.33,2.75 3.83,2.75 ; 8.91,2.75 8.91,3.75 11.41,3.75 11.41,2.75 8.91,2.75 ; 13.99,2.75 13.99,3.75 16.49,3.75 16.49,2.75 13.99,2.75 ; 19.07,2.75 19.07,3.75 21.57,3.75 21.57,2.75 19.07,2.75 ; 24.15,2.75 24.15,3.75 26.65,3.75 26.65,2.75 24.15,2.75 ; 29.23,2.75 29.23,3.75 31.73,3.75 31.73,2.75 29.23,2.75 ; 34.31,2.75 34.31,3.75 36.81,3.75 36.81,2.75 34.31,2.75 ; 39.39,2.75 39.39,3.75 41.89,3.75 41.89,2.75 39.39,2.75
F.Fab:
  circle w0.254: c0,0 r1.5
  circle w0.254: c5.08,0 r1.5
  circle w0.254: c10.16,0 r1.5
  circle w0.254: c15.24,0 r1.5
  circle w0.254: c20.32,0 r1.5
  circle w0.254: c25.4,0 r1.5
  circle w0.254: c30.48,0 r1.5
  circle w0.254: c35.56,0 r1.5
  circle w0.254: c40.64,0 r1.5
  lines w0.254: -2.54,-3.35 43.18,-3.35 ; -2.54,2.25 43.18,2.25 ; -1.138,-0.955 0.955,1.138 ; -0.955,-1.138 1.138,0.955 ; 9.022,-0.955 11.115,1.138 ; 9.205,-1.138 11.298,0.955 ; 19.182,-0.955 21.275,1.138 ; 19.365,-1.138 21.458,0.955 ; 29.342,-0.955 31.435,1.138 ; 29.525,-1.138 31.618,0.955 ; 39.502,-0.955 41.595,1.138 ; 39.685,-1.138 41.778,0.955 ; 43.18,-3.95 -2.54,-3.95 ; -2.54,-3.95 -2.54,3.75 43.18,3.75 43.18,-4.55 -1.94,-4.55 -2.54,-3.95 ; -1.25,2.75 -1.25,3.75 1.25,3.75 1.25,2.75 -1.25,2.75 ; 3.83,2.75 3.83,3.75 6.33,3.75 6.33,2.75 3.83,2.75 ; 8.91,2.75 8.91,3.75 11.41,3.75 11.41,2.75 8.91,2.75 ; 13.99,2.75 13.99,3.75 16.49,3.75 16.49,2.75 13.99,2.75 ; 19.07,2.75 19.07,3.75 21.57,3.75 21.57,2.75 19.07,2.75 ; 24.15,2.75 24.15,3.75 26.65,3.75 26.65,2.75 24.15,2.75 ; 29.23,2.75 29.23,3.75 31.73,3.75 31.73,2.75 29.23,2.75 ; 34.31,2.75 34.31,3.75 36.81,3.75 36.81,2.75 34.31,2.75 ; 39.39,2.75 39.39,3.75 41.89,3.75 41.89,2.75 39.39,2.75
  text "'.Designator'" at 16.273,4.03 h1
F.CrtYd:
  lines w0.254: -3.04,-5.05 -3.04,4.26 43.68,4.26 43.68,-5.05 -3.04,-5.05

## TerminalBlock_RND_205-00245_1x06_P10.16mm_Horizontal [mm]
pads (6):
  rrect10% 2.5x2.5 hole 1.3: 1(0,0)
  round 2.5 hole 1.3: 2(10.16,0) 3(20.32,0) 4(30.48,0) 5(40.64,0) 6(50.8,0)
F.SilkS:
  circle w0.254: c5.08,0 r1.5
  circle w0.254: c15.24,0 r1.5
  circle w0.254: c25.4,0 r1.5
  circle w0.254: c35.56,0 r1.5
  circle w0.254: c45.72,0 r1.5
  region: 0.44,-5.28 -0.44,-5.28 0,-4.67
  lines w0.254: -2.66,-3.95 53.46,-3.95 ; -2.66,-3.35 53.46,-3.35 ; -2.66,2.25 53.46,2.25 ; -0.3,-4.67 -2.66,-4.67 -2.66,3.87 53.46,3.87 53.46,-4.67 0.3,-4.67 ; -1.25,2.75 -1.25,3.75 1.25,3.75 1.25,2.75 -1.25,2.75 ; 3.83,2.75 3.83,3.75 6.33,3.75 6.33,2.75 3.83,2.75 ; 8.91,2.75 8.91,3.75 11.41,3.75 11.41,2.75 8.91,2.75 ; 13.99,2.75 13.99,3.75 16.49,3.75 16.49,2.75 13.99,2.75 ; 19.07,2.75 19.07,3.75 21.57,3.75 21.57,2.75 19.07,2.75 ; 24.15,2.75 24.15,3.75 26.65,3.75 26.65,2.75 24.15,2.75 ; 29.23,2.75 29.23,3.75 31.73,3.75 31.73,2.75 29.23,2.75 ; 34.31,2.75 34.31,3.75 36.81,3.75 36.81,2.75 34.31,2.75 ; 39.39,2.75 39.39,3.75 41.89,3.75 41.89,2.75 39.39,2.75 ; 44.47,2.75 44.47,3.75 46.97,3.75 46.97,2.75 44.47,2.75 ; 49.55,2.75 49.55,3.75 52.05,3.75 52.05,2.75 49.55,2.75
F.Fab:
  circle w0.254: c0,0 r1.5
  circle w0.254: c5.08,0 r1.5
  circle w0.254: c10.16,0 r1.5
  circle w0.254: c15.24,0 r1.5
  circle w0.254: c20.32,0 r1.5
  circle w0.254: c25.4,0 r1.5
  circle w0.254: c30.48,0 r1.5
  circle w0.254: c35.56,0 r1.5
  circle w0.254: c40.64,0 r1.5
  circle w0.254: c45.72,0 r1.5
  circle w0.254: c50.8,0 r1.5
  lines w0.254: -2.54,-3.35 53.34,-3.35 ; -2.54,2.25 53.34,2.25 ; -1.138,-0.955 0.955,1.138 ; -0.955,-1.138 1.138,0.955 ; 9.022,-0.955 11.115,1.138 ; 9.205,-1.138 11.298,0.955 ; 19.182,-0.955 21.275,1.138 ; 19.365,-1.138 21.458,0.955 ; 29.342,-0.955 31.435,1.138 ; 29.525,-1.138 31.618,0.955 ; 39.502,-0.955 41.595,1.138 ; 39.685,-1.138 41.778,0.955 ; 49.662,-0.955 51.755,1.138 ; 49.845,-1.138 51.938,0.955 ; 53.34,-3.95 -2.54,-3.95 ; -2.54,-3.95 -2.54,3.75 53.34,3.75 53.34,-4.55 -1.94,-4.55 -2.54,-3.95 ; -1.25,2.75 -1.25,3.75 1.25,3.75 1.25,2.75 -1.25,2.75 ; 3.83,2.75 3.83,3.75 6.33,3.75 6.33,2.75 3.83,2.75 ; 8.91,2.75 8.91,3.75 11.41,3.75 11.41,2.75 8.91,2.75 ; 13.99,2.75 13.99,3.75 16.49,3.75 16.49,2.75 13.99,2.75 ; 19.07,2.75 19.07,3.75 21.57,3.75 21.57,2.75 19.07,2.75 ; 24.15,2.75 24.15,3.75 26.65,3.75 26.65,2.75 24.15,2.75 ; 29.23,2.75 29.23,3.75 31.73,3.75 31.73,2.75 29.23,2.75 ; 34.31,2.75 34.31,3.75 36.81,3.75 36.81,2.75 34.31,2.75 ; 39.39,2.75 39.39,3.75 41.89,3.75 41.89,2.75 39.39,2.75 ; 44.47,2.75 44.47,3.75 46.97,3.75 46.97,2.75 44.47,2.75 ; 49.55,2.75 49.55,3.75 52.05,3.75 52.05,2.75 49.55,2.75
  text "'.Designator'" at 21.353,4.03 h1
F.CrtYd:
  lines w0.254: -3.04,-5.05 -3.04,4.26 53.84,4.26 53.84,-5.05 -3.04,-5.05

## TerminalBlock_RND_205-00246_1x07_P10.16mm_Horizontal [mm]
pads (7):
  rrect10% 2.5x2.5 hole 1.3: 1(0,0)
  round 2.5 hole 1.3: 2(10.16,0) 3(20.32,0) 4(30.48,0) 5(40.64,0) 6(50.8,0) 7(60.96,0)
F.SilkS:
  circle w0.254: c5.08,0 r1.5
  circle w0.254: c15.24,0 r1.5
  circle w0.254: c25.4,0 r1.5
  circle w0.254: c35.56,0 r1.5
  circle w0.254: c45.72,0 r1.5
  circle w0.254: c55.88,0 r1.5
  region: 0.44,-5.28 -0.44,-5.28 0,-4.67
  lines w0.254: -2.66,-3.95 63.62,-3.95 ; -2.66,-3.35 63.62,-3.35 ; -2.66,2.25 63.62,2.25 ; -0.3,-4.67 -2.66,-4.67 -2.66,3.87 63.62,3.87 63.62,-4.67 0.3,-4.67 ; -1.25,2.75 -1.25,3.75 1.25,3.75 1.25,2.75 -1.25,2.75 ; 3.83,2.75 3.83,3.75 6.33,3.75 6.33,2.75 3.83,2.75 ; 8.91,2.75 8.91,3.75 11.41,3.75 11.41,2.75 8.91,2.75 ; 13.99,2.75 13.99,3.75 16.49,3.75 16.49,2.75 13.99,2.75 ; 19.07,2.75 19.07,3.75 21.57,3.75 21.57,2.75 19.07,2.75 ; 24.15,2.75 24.15,3.75 26.65,3.75 26.65,2.75 24.15,2.75 ; 29.23,2.75 29.23,3.75 31.73,3.75 31.73,2.75 29.23,2.75 ; 34.31,2.75 34.31,3.75 36.81,3.75 36.81,2.75 34.31,2.75 ; 39.39,2.75 39.39,3.75 41.89,3.75 41.89,2.75 39.39,2.75 ; 44.47,2.75 44.47,3.75 46.97,3.75 46.97,2.75 44.47,2.75 ; 49.55,2.75 49.55,3.75 52.05,3.75 52.05,2.75 49.55,2.75 ; 54.63,2.75 54.63,3.75 57.13,3.75 57.13,2.75 54.63,2.75 ; 59.71,2.75 59.71,3.75 62.21,3.75 62.21,2.75 59.71,2.75
F.Fab:
  circle w0.254: c0,0 r1.5
  circle w0.254: c5.08,0 r1.5
  circle w0.254: c10.16,0 r1.5
  circle w0.254: c15.24,0 r1.5
  circle w0.254: c20.32,0 r1.5
  circle w0.254: c25.4,0 r1.5
  circle w0.254: c30.48,0 r1.5
  circle w0.254: c35.56,0 r1.5
  circle w0.254: c40.64,0 r1.5
  circle w0.254: c45.72,0 r1.5
  circle w0.254: c50.8,0 r1.5
  circle w0.254: c55.88,0 r1.5
  circle w0.254: c60.96,0 r1.5
  lines w0.254: -2.54,-3.35 63.5,-3.35 ; -2.54,2.25 63.5,2.25 ; -1.138,-0.955 0.955,1.138 ; -0.955,-1.138 1.138,0.955 ; 9.022,-0.955 11.115,1.138 ; 9.205,-1.138 11.298,0.955 ; 19.182,-0.955 21.275,1.138 ; 19.365,-1.138 21.458,0.955 ; 29.342,-0.955 31.435,1.138 ; 29.525,-1.138 31.618,0.955 ; 39.502,-0.955 41.595,1.138 ; 39.685,-1.138 41.778,0.955 ; 49.662,-0.955 51.755,1.138 ; 49.845,-1.138 51.938,0.955 ; 59.822,-0.955 61.915,1.138 ; 60.005,-1.138 62.098,0.955 ; 63.5,-3.95 -2.54,-3.95 ; -2.54,-3.95 -2.54,3.75 63.5,3.75 63.5,-4.55 -1.94,-4.55 -2.54,-3.95 ; -1.25,2.75 -1.25,3.75 1.25,3.75 1.25,2.75 -1.25,2.75 ; 3.83,2.75 3.83,3.75 6.33,3.75 6.33,2.75 3.83,2.75 ; 8.91,2.75 8.91,3.75 11.41,3.75 11.41,2.75 8.91,2.75 ; 13.99,2.75 13.99,3.75 16.49,3.75 16.49,2.75 13.99,2.75 ; 19.07,2.75 19.07,3.75 21.57,3.75 21.57,2.75 19.07,2.75 ; 24.15,2.75 24.15,3.75 26.65,3.75 26.65,2.75 24.15,2.75 ; 29.23,2.75 29.23,3.75 31.73,3.75 31.73,2.75 29.23,2.75 ; 34.31,2.75 34.31,3.75 36.81,3.75 36.81,2.75 34.31,2.75 ; 39.39,2.75 39.39,3.75 41.89,3.75 41.89,2.75 39.39,2.75 ; 44.47,2.75 44.47,3.75 46.97,3.75 46.97,2.75 44.47,2.75 ; 49.55,2.75 49.55,3.75 52.05,3.75 52.05,2.75 49.55,2.75 ; 54.63,2.75 54.63,3.75 57.13,3.75 57.13,2.75 54.63,2.75 ; 59.71,2.75 59.71,3.75 62.21,3.75 62.21,2.75 59.71,2.75
  text "'.Designator'" at 26.433,4.03 h1
F.CrtYd:
  lines w0.254: -3.04,-5.05 -3.04,4.26 64,4.26 64,-5.05 -3.04,-5.05

## TerminalBlock_RND_205-00247_1x08_P10.16mm_Horizontal [mm]
pads (8):
  rrect10% 2.5x2.5 hole 1.3: 1(0,0)
  round 2.5 hole 1.3: 2(10.16,0) 3(20.32,0) 4(30.48,0) 5(40.64,0) 6(50.8,0) 7(60.96,0) 8(71.12,0)
F.SilkS:
  circle w0.254: c5.08,0 r1.5
  circle w0.254: c15.24,0 r1.5
  circle w0.254: c25.4,0 r1.5
  circle w0.254: c35.56,0 r1.5
  circle w0.254: c45.72,0 r1.5
  circle w0.254: c55.88,0 r1.5
  circle w0.254: c66.04,0 r1.5
  region: 0.44,-5.28 -0.44,-5.28 0,-4.67
  lines w0.254: -2.66,-3.95 73.78,-3.95 ; -2.66,-3.35 73.78,-3.35 ; -2.66,2.25 73.78,2.25 ; -0.3,-4.67 -2.66,-4.67 -2.66,3.87 73.78,3.87 73.78,-4.67 0.3,-4.67 ; -1.25,2.75 -1.25,3.75 1.25,3.75 1.25,2.75 -1.25,2.75 ; 3.83,2.75 3.83,3.75 6.33,3.75 6.33,2.75 3.83,2.75 ; 8.91,2.75 8.91,3.75 11.41,3.75 11.41,2.75 8.91,2.75 ; 13.99,2.75 13.99,3.75 16.49,3.75 16.49,2.75 13.99,2.75 ; 19.07,2.75 19.07,3.75 21.57,3.75 21.57,2.75 19.07,2.75 ; 24.15,2.75 24.15,3.75 26.65,3.75 26.65,2.75 24.15,2.75 ; 29.23,2.75 29.23,3.75 31.73,3.75 31.73,2.75 29.23,2.75 ; 34.31,2.75 34.31,3.75 36.81,3.75 36.81,2.75 34.31,2.75 ; 39.39,2.75 39.39,3.75 41.89,3.75 41.89,2.75 39.39,2.75 ; 44.47,2.75 44.47,3.75 46.97,3.75 46.97,2.75 44.47,2.75 ; 49.55,2.75 49.55,3.75 52.05,3.75 52.05,2.75 49.55,2.75 ; 54.63,2.75 54.63,3.75 57.13,3.75 57.13,2.75 54.63,2.75 ; 59.71,2.75 59.71,3.75 62.21,3.75 62.21,2.75 59.71,2.75 ; 64.79,2.75 64.79,3.75 67.29,3.75 67.29,2.75 64.79,2.75 ; 69.87,2.75 69.87,3.75 72.37,3.75 72.37,2.75 69.87,2.75
F.Fab:
  circle w0.254: c0,0 r1.5
  circle w0.254: c5.08,0 r1.5
  circle w0.254: c10.16,0 r1.5
  circle w0.254: c15.24,0 r1.5
  circle w0.254: c20.32,0 r1.5
  circle w0.254: c25.4,0 r1.5
  circle w0.254: c30.48,0 r1.5
  circle w0.254: c35.56,0 r1.5
  circle w0.254: c40.64,0 r1.5
  circle w0.254: c45.72,0 r1.5
  circle w0.254: c50.8,0 r1.5
  circle w0.254: c55.88,0 r1.5
  circle w0.254: c60.96,0 r1.5
  circle w0.254: c66.04,0 r1.5
  circle w0.254: c71.12,0 r1.5
  lines w0.254: -2.54,-3.35 73.66,-3.35 ; -2.54,2.25 73.66,2.25 ; -1.138,-0.955 0.955,1.138 ; -0.955,-1.138 1.138,0.955 ; 9.022,-0.955 11.115,1.138 ; 9.205,-1.138 11.298,0.955 ; 19.182,-0.955 21.275,1.138 ; 19.365,-1.138 21.458,0.955 ; 29.342,-0.955 31.435,1.138 ; 29.525,-1.138 31.618,0.955 ; 39.502,-0.955 41.595,1.138 ; 39.685,-1.138 41.778,0.955 ; 49.662,-0.955 51.755,1.138 ; 49.845,-1.138 51.938,0.955 ; 59.822,-0.955 61.915,1.138 ; 60.005,-1.138 62.098,0.955 ; 69.982,-0.955 72.075,1.138 ; 70.165,-1.138 72.258,0.955 ; 73.66,-3.95 -2.54,-3.95 ; -2.54,-3.95 -2.54,3.75 73.66,3.75 73.66,-4.55 -1.94,-4.55 -2.54,-3.95 ; -1.25,2.75 -1.25,3.75 1.25,3.75 1.25,2.75 -1.25,2.75 ; 3.83,2.75 3.83,3.75 6.33,3.75 6.33,2.75 3.83,2.75 ; 8.91,2.75 8.91,3.75 11.41,3.75 11.41,2.75 8.91,2.75 ; 13.99,2.75 13.99,3.75 16.49,3.75 16.49,2.75 13.99,2.75 ; 19.07,2.75 19.07,3.75 21.57,3.75 21.57,2.75 19.07,2.75 ; 24.15,2.75 24.15,3.75 26.65,3.75 26.65,2.75 24.15,2.75 ; 29.23,2.75 29.23,3.75 31.73,3.75 31.73,2.75 29.23,2.75 ; 34.31,2.75 34.31,3.75 36.81,3.75 36.81,2.75 34.31,2.75 ; 39.39,2.75 39.39,3.75 41.89,3.75 41.89,2.75 39.39,2.75 ; 44.47,2.75 44.47,3.75 46.97,3.75 46.97,2.75 44.47,2.75 ; 49.55,2.75 49.55,3.75 52.05,3.75 52.05,2.75 49.55,2.75 ; 54.63,2.75 54.63,3.75 57.13,3.75 57.13,2.75 54.63,2.75 ; 59.71,2.75 59.71,3.75 62.21,3.75 62.21,2.75 59.71,2.75 ; 64.79,2.75 64.79,3.75 67.29,3.75 67.29,2.75 64.79,2.75 ; 69.87,2.75 69.87,3.75 72.37,3.75 72.37,2.75 69.87,2.75
  text "'.Designator'" at 31.513,4.03 h1
F.CrtYd:
  lines w0.254: -3.04,-5.05 -3.04,4.26 74.16,4.26 74.16,-5.05 -3.04,-5.05

## TerminalBlock_RND_205-00248_1x09_P10.16mm_Horizontal [mm]
pads (9):
  rrect10% 2.5x2.5 hole 1.3: 1(0,0)
  round 2.5 hole 1.3: 2(10.16,0) 3(20.32,0) 4(30.48,0) 5(40.64,0) 6(50.8,0) 7(60.96,0) 8(71.12,0) 9(81.28,0)
F.SilkS:
  circle w0.254: c5.08,0 r1.5
  circle w0.254: c15.24,0 r1.5
  circle w0.254: c25.4,0 r1.5
  circle w0.254: c35.56,0 r1.5
  circle w0.254: c45.72,0 r1.5
  circle w0.254: c55.88,0 r1.5
  circle w0.254: c66.04,0 r1.5
  circle w0.254: c76.2,0 r1.5
  region: 0.44,-5.28 -0.44,-5.28 0,-4.67
  lines w0.254: -2.66,-3.95 83.94,-3.95 ; -2.66,-3.35 83.94,-3.35 ; -2.66,2.25 83.94,2.25 ; -0.3,-4.67 -2.66,-4.67 -2.66,3.87 83.94,3.87 83.94,-4.67 0.3,-4.67 ; -1.25,2.75 -1.25,3.75 1.25,3.75 1.25,2.75 -1.25,2.75 ; 3.83,2.75 3.83,3.75 6.33,3.75 6.33,2.75 3.83,2.75 ; 8.91,2.75 8.91,3.75 11.41,3.75 11.41,2.75 8.91,2.75 ; 13.99,2.75 13.99,3.75 16.49,3.75 16.49,2.75 13.99,2.75 ; 19.07,2.75 19.07,3.75 21.57,3.75 21.57,2.75 19.07,2.75 ; 24.15,2.75 24.15,3.75 26.65,3.75 26.65,2.75 24.15,2.75 ; 29.23,2.75 29.23,3.75 31.73,3.75 31.73,2.75 29.23,2.75 ; 34.31,2.75 34.31,3.75 36.81,3.75 36.81,2.75 34.31,2.75 ; 39.39,2.75 39.39,3.75 41.89,3.75 41.89,2.75 39.39,2.75 ; 44.47,2.75 44.47,3.75 46.97,3.75 46.97,2.75 44.47,2.75 ; 49.55,2.75 49.55,3.75 52.05,3.75 52.05,2.75 49.55,2.75 ; 54.63,2.75 54.63,3.75 57.13,3.75 57.13,2.75 54.63,2.75 ; 59.71,2.75 59.71,3.75 62.21,3.75 62.21,2.75 59.71,2.75 ; 64.79,2.75 64.79,3.75 67.29,3.75 67.29,2.75 64.79,2.75 ; 69.87,2.75 69.87,3.75 72.37,3.75 72.37,2.75 69.87,2.75 ; 74.95,2.75 74.95,3.75 77.45,3.75 77.45,2.75 74.95,2.75 ; 80.03,2.75 80.03,3.75 82.53,3.75 82.53,2.75 80.03,2.75
F.Fab:
  circle w0.254: c0,0 r1.5
  circle w0.254: c5.08,0 r1.5
  circle w0.254: c10.16,0 r1.5
  circle w0.254: c15.24,0 r1.5
  circle w0.254: c20.32,0 r1.5
  circle w0.254: c25.4,0 r1.5
  circle w0.254: c30.48,0 r1.5
  circle w0.254: c35.56,0 r1.5
  circle w0.254: c40.64,0 r1.5
  circle w0.254: c45.72,0 r1.5
  circle w0.254: c50.8,0 r1.5
  circle w0.254: c55.88,0 r1.5
  circle w0.254: c60.96,0 r1.5
  circle w0.254: c66.04,0 r1.5
  circle w0.254: c71.12,0 r1.5
  circle w0.254: c76.2,0 r1.5
  circle w0.254: c81.28,0 r1.5
  lines w0.254: -2.54,-3.35 83.82,-3.35 ; -2.54,2.25 83.82,2.25 ; -1.138,-0.955 0.955,1.138 ; -0.955,-1.138 1.138,0.955 ; 9.022,-0.955 11.115,1.138 ; 9.205,-1.138 11.298,0.955 ; 19.182,-0.955 21.275,1.138 ; 19.365,-1.138 21.458,0.955 ; 29.342,-0.955 31.435,1.138 ; 29.525,-1.138 31.618,0.955 ; 39.502,-0.955 41.595,1.138 ; 39.685,-1.138 41.778,0.955 ; 49.662,-0.955 51.755,1.138 ; 49.845,-1.138 51.938,0.955 ; 59.822,-0.955 61.915,1.138 ; 60.005,-1.138 62.098,0.955 ; 69.982,-0.955 72.075,1.138 ; 70.165,-1.138 72.258,0.955 ; 80.142,-0.955 82.235,1.138 ; 80.325,-1.138 82.418,0.955 ; 83.82,-3.95 -2.54,-3.95 ; -2.54,-3.95 -2.54,3.75 83.82,3.75 83.82,-4.55 -1.94,-4.55 -2.54,-3.95 ; -1.25,2.75 -1.25,3.75 1.25,3.75 1.25,2.75 -1.25,2.75 ; 3.83,2.75 3.83,3.75 6.33,3.75 6.33,2.75 3.83,2.75 ; 8.91,2.75 8.91,3.75 11.41,3.75 11.41,2.75 8.91,2.75 ; 13.99,2.75 13.99,3.75 16.49,3.75 16.49,2.75 13.99,2.75 ; 19.07,2.75 19.07,3.75 21.57,3.75 21.57,2.75 19.07,2.75 ; 24.15,2.75 24.15,3.75 26.65,3.75 26.65,2.75 24.15,2.75 ; 29.23,2.75 29.23,3.75 31.73,3.75 31.73,2.75 29.23,2.75 ; 34.31,2.75 34.31,3.75 36.81,3.75 36.81,2.75 34.31,2.75 ; 39.39,2.75 39.39,3.75 41.89,3.75 41.89,2.75 39.39,2.75 ; 44.47,2.75 44.47,3.75 46.97,3.75 46.97,2.75 44.47,2.75 ; 49.55,2.75 49.55,3.75 52.05,3.75 52.05,2.75 49.55,2.75 ; 54.63,2.75 54.63,3.75 57.13,3.75 57.13,2.75 54.63,2.75 ; 59.71,2.75 59.71,3.75 62.21,3.75 62.21,2.75 59.71,2.75 ; 64.79,2.75 64.79,3.75 67.29,3.75 67.29,2.75 64.79,2.75 ; 69.87,2.75 69.87,3.75 72.37,3.75 72.37,2.75 69.87,2.75 ; 74.95,2.75 74.95,3.75 77.45,3.75 77.45,2.75 74.95,2.75 ; 80.03,2.75 80.03,3.75 82.53,3.75 82.53,2.75 80.03,2.75
  text "'.Designator'" at 36.593,4.03 h1
F.CrtYd:
  lines w0.254: -3.04,-5.05 -3.04,4.26 84.32,4.26 84.32,-5.05 -3.04,-5.05